# Altium footprint library MyLib.PcbLib: 105 footprints (part 5 of 7)
Each footprint in its own frame and in the unit in brackets; x right, y up, seen from the top. Pads: shape width x height; smd on the part's side, far side on the other; paste and mask are expansions set on the pad; w line width, h text height; cw(c..) or ccw(c..) is an arc to the next point about the centre after c.
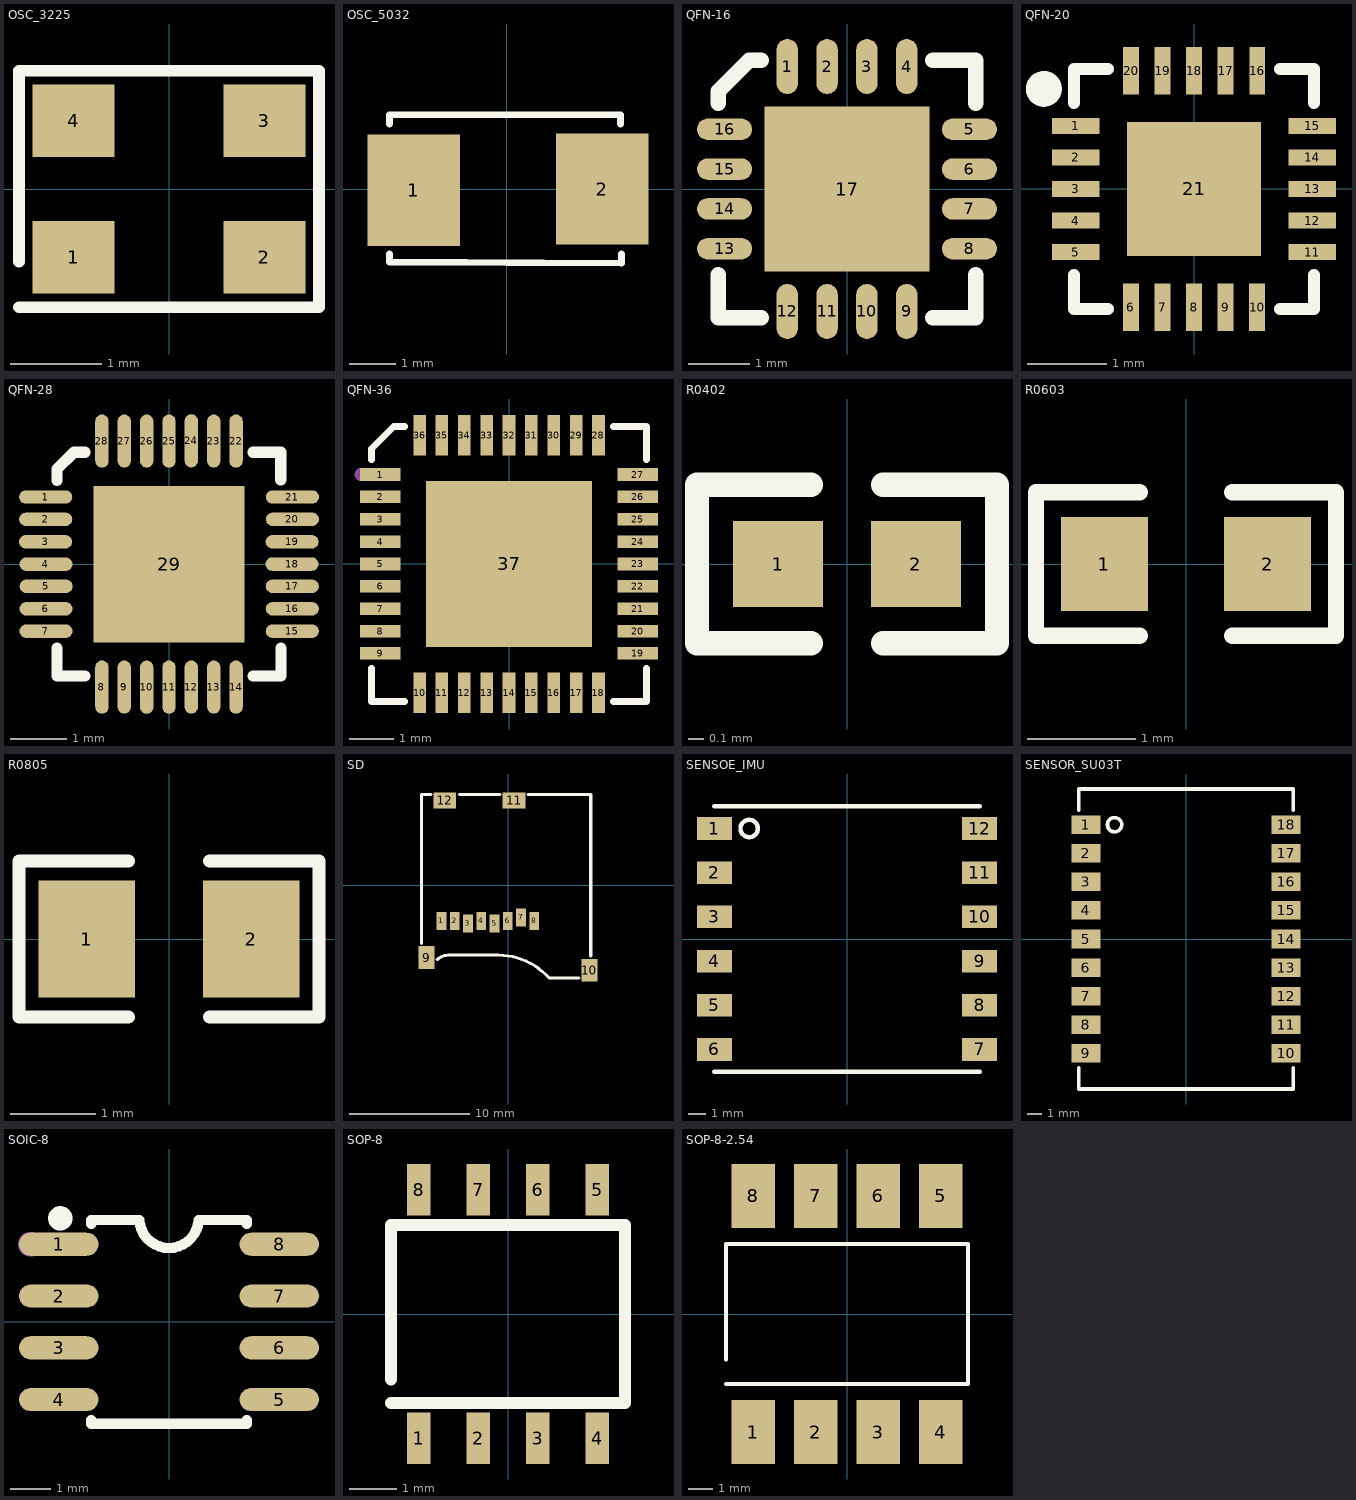
[diagram p4: the footprints below, top view; thin cyan lines are the x and y axes]

## OSC_3225 [mm]
pads (4):
  rect 0.9x0.8 smd mask+0.051: 1(-1.05,-0.75) 2(1.05,-0.75) 3(1.05,0.75) 4(-1.05,0.75)
Top Overlay:
  lines w0.127: -1.65,-1.3 1.65,-1.3 1.65,1.3 -1.65,1.3 -1.65,-0.8

## OSC_5032 [mm]
pads (2):
  rect 2x2.4 smd mask+0.102: 1(-2.006,-0.025) 2(2.058,0)
Top Overlay:
  lines w0.15: -2.525,-1.4 -2.525,-1.575 2.475,-1.6 2.475,-1.4 ; -2.525,1.4 -2.525,1.6 -1.925,1.6 2.449,1.6 2.449,1.4

## PCBComponent_1 [mm]

## QFN-16 [mm]
pads (17):
  oval 0.35x0.9 smd mask+0.051: 1(-0.975,2) 2(-0.325,2) 3(0.325,2) 4(0.975,2) 9(0.975,-2) 10(0.325,-2) 11(-0.325,-2) 12(-0.975,-2)
  oval 0.9x0.35 smd mask+0.051: 5(2,0.975) 6(2,0.325) 7(2,-0.325) 8(2,-0.975) 13(-2,-0.975) 14(-2,-0.325) 15(-2,0.325) 16(-2,0.975)
  rect 2.7x2.7 smd mask+0.051: 17(0,0)
Top Overlay:
  lines w0.254: -2.1,-1.4 -2.1,-2.1 -1.4,-2.1 ; -2.1,1.4 -2.1,1.6 -1.6,2.1 -1.4,2.1 ; 1.4,-2.1 2.1,-2.1 2.1,-1.4 ; 1.4,2.1 2.1,2.1 2.1,1.4

## QFN-20 [mm]
pads (21):
  rect 0.6x0.2 smd mask+0.051: 1(-1.5,0.8) 2(-1.5,0.4) 3(-1.5,0) 4(-1.5,-0.4) 5(-1.5,-0.8) 11(1.5,-0.8) 12(1.5,-0.4) 13(1.5,0) 14(1.5,0.4) 15(1.5,0.8)
  rect 0.2x0.6 smd mask+0.051: 6(-0.8,-1.5) 7(-0.4,-1.5) 8(0,-1.5) 9(0.4,-1.5) 10(0.8,-1.5) 16(0.8,1.5) 17(0.4,1.5) 18(0,1.5) 19(-0.4,1.5) 20(-0.8,1.5)
  rect 1.7x1.7 smd mask+0.051: 21(0,0)
Top Overlay:
  circle w0.254: c-1.905,1.27 r0.1
  lines w0.152: -1.524,-1.09 -1.524,-1.524 -1.09,-1.524 ; -1.524,1.143 -1.524,1.09 -1.524,1.524 -1.09,1.524 ; 1.09,-1.524 1.524,-1.524 1.524,-1.09 ; 1.09,1.524 1.524,1.524 1.524,1.09
Top Paste:
  region: 0.68,-0.68 -0.68,-0.68 -0.68,0.68 0.68,0.68
  region: -1.2,0.7 -1.2,0.9 -1.8,0.9 -1.8,0.7
  region: -1.2,0.3 -1.2,0.5 -1.8,0.5 -1.8,0.3
  region: -1.2,-0.1 -1.2,0.1 -1.8,0.1 -1.8,-0.1
  region: -1.2,-0.5 -1.2,-0.3 -1.8,-0.3 -1.8,-0.5
  region: -1.2,-0.9 -1.2,-0.7 -1.8,-0.7 -1.8,-0.9
  region: 1.8,0.7 1.8,0.9 1.2,0.9 1.2,0.7
  region: 1.8,0.3 1.8,0.5 1.2,0.5 1.2,0.3
  region: 1.8,-0.1 1.8,0.1 1.2,0.1 1.2,-0.1
  region: 1.8,-0.5 1.8,-0.3 1.2,-0.3 1.2,-0.5
  region: 1.8,-0.9 1.8,-0.7 1.2,-0.7 1.2,-0.9
  region: -0.7,1.8 -0.9,1.8 -0.9,1.2 -0.7,1.2
  region: -0.3,1.8 -0.5,1.8 -0.5,1.2 -0.3,1.2
  region: 0.1,1.8 -0.1,1.8 -0.1,1.2 0.1,1.2
  region: 0.5,1.8 0.3,1.8 0.3,1.2 0.5,1.2
  region: 0.9,1.8 0.7,1.8 0.7,1.2 0.9,1.2
  region: -0.7,-1.2 -0.9,-1.2 -0.9,-1.8 -0.7,-1.8
  region: -0.3,-1.2 -0.5,-1.2 -0.5,-1.8 -0.3,-1.8
  region: 0.1,-1.2 -0.1,-1.2 -0.1,-1.8 0.1,-1.8
  region: 0.5,-1.2 0.3,-1.2 0.3,-1.8 0.5,-1.8
  region: 0.9,-1.2 0.7,-1.2 0.7,-1.8 0.9,-1.8

## QFN-28 [mm]
pads (29):
  oval 0.95x0.24 smd: 1(-2.205,1.199) 2(-2.205,0.8) 3(-2.207,0.399) 4(-2.2,-0.003) 5(-2.197,-0.399) 6(-2.2,-0.8) 7(-2.2,-1.199) 15(2.205,-1.199) 16(2.205,-0.8) 17(2.205,-0.399) 18(2.2,0) 19(2.202,0.399) 20(2.207,0.8) 21(2.207,1.199)
  oval 0.24x0.95 smd: 8(-1.199,-2.2) 9(-0.8,-2.2) 10(-0.399,-2.202) 11(0,-2.2) 12(0.399,-2.2) 13(0.8,-2.2) 14(1.199,-2.2) 22(1.199,2.2) 23(0.8,2.2) 24(0.399,2.205) 25(0,2.2) 26(-0.399,2.2) 27(-0.8,2.2) 28(-1.199,2.2)
  rect 2.7x2.8 smd: 29(0,0)
Top Overlay:
  lines w0.2: -2,-1.5 -2,-2 -1.5,-2 ; -2,1.5 -2,1.7 -1.7,2 -1.5,2 ; 1.5,-2 2,-2 2,-1.5 ; 1.501,1.999 1.999,1.999 1.999,1.501

## QFN-36 [mm]
pads (37):
  rect 0.905x0.28 smd: 1(-2.877,2) 2(-2.877,1.5) 3(-2.877,1) 4(-2.877,0.5) 5(-2.877,0) 6(-2.877,-0.5) 7(-2.877,-1) 8(-2.877,-1.5) 9(-2.877,-2) 19(2.877,-2) 20(2.877,-1.5) 21(2.877,-1) 22(2.877,-0.5) 23(2.877,0) 24(2.877,0.5) 25(2.877,1) 26(2.877,1.5) 27(2.877,2)
  rect 0.28x0.905 smd: 10(-2,-2.877) 11(-1.5,-2.877) 12(-1,-2.877) 13(-0.5,-2.877) 14(0,-2.877) 15(0.5,-2.877) 16(1,-2.877) 17(1.5,-2.877) 18(2,-2.877) 28(2,2.877) 29(1.5,2.877) 30(1,2.877) 31(0.5,2.877) 32(0,2.877) 33(-0.5,2.877) 34(-1,2.877) 35(-1.5,2.877) 36(-2,2.877)
  rect 3.7x3.7 smd: 37(0,0)
Top Overlay:
  lines w0.152: -3.076,-2.331 -3.076,-3.076 -2.331,-3.076 ; -3.076,2.331 -3.076,2.576 -2.576,3.076 -2.331,3.076 ; 2.331,-3.076 3.076,-3.076 3.076,-2.331 ; 2.331,3.076 3.076,3.076 3.076,2.331
Top Paste:
  region: 1.48,1.48 1.48,-1.48 -1.48,-1.48 -1.48,1.48
  region: 2.14,3.33 1.86,3.33 1.86,2.425 2.14,2.425
  region: 1.64,3.33 1.36,3.33 1.36,2.425 1.64,2.425
  region: 1.14,3.33 0.86,3.33 0.86,2.425 1.14,2.425
  region: 0.64,3.33 0.36,3.33 0.36,2.425 0.64,2.425
  region: 0.14,3.33 -0.14,3.33 -0.14,2.425 0.14,2.425
  region: -0.36,3.33 -0.64,3.33 -0.64,2.425 -0.36,2.425
  region: -0.86,3.33 -1.14,3.33 -1.14,2.425 -0.86,2.425
  region: -1.36,3.33 -1.64,3.33 -1.64,2.425 -1.36,2.425
  region: -1.86,3.33 -2.14,3.33 -2.14,2.425 -1.86,2.425
  region: -1.86,-2.425 -2.14,-2.425 -2.14,-3.33 -1.86,-3.33
  region: -1.36,-2.425 -1.64,-2.425 -1.64,-3.33 -1.36,-3.33
  region: -0.86,-2.425 -1.14,-2.425 -1.14,-3.33 -0.86,-3.33
  region: -0.36,-2.425 -0.64,-2.425 -0.64,-3.33 -0.36,-3.33
  region: 0.14,-2.425 -0.14,-2.425 -0.14,-3.33 0.14,-3.33
  region: 0.64,-2.425 0.36,-2.425 0.36,-3.33 0.64,-3.33
  region: 1.14,-2.425 0.86,-2.425 0.86,-3.33 1.14,-3.33
  region: 1.64,-2.425 1.36,-2.425 1.36,-3.33 1.64,-3.33
  region: 2.14,-2.425 1.86,-2.425 1.86,-3.33 2.14,-3.33
  region: -3.33,-1.86 -3.33,-2.14 -2.425,-2.14 -2.425,-1.86
  region: -3.33,-1.36 -3.33,-1.64 -2.425,-1.64 -2.425,-1.36
  region: -3.33,-0.86 -3.33,-1.14 -2.425,-1.14 -2.425,-0.86
  region: -3.33,-0.36 -3.33,-0.64 -2.425,-0.64 -2.425,-0.36
  region: -3.33,0.14 -3.33,-0.14 -2.425,-0.14 -2.425,0.14
  region: -3.33,0.64 -3.33,0.36 -2.425,0.36 -2.425,0.64
  region: -3.33,1.14 -3.33,0.86 -2.425,0.86 -2.425,1.14
  region: -3.33,1.64 -3.33,1.36 -2.425,1.36 -2.425,1.64
  region: -3.33,2.14 -3.33,1.86 -2.425,1.86 -2.425,2.14
  region: 2.425,-1.86 2.425,-2.14 3.33,-2.14 3.33,-1.86
  region: 2.425,-1.36 2.425,-1.64 3.33,-1.64 3.33,-1.36
  region: 2.425,-0.86 2.425,-1.14 3.33,-1.14 3.33,-0.86
  region: 2.425,-0.36 2.425,-0.64 3.33,-0.64 3.33,-0.36
  region: 2.425,0.14 2.425,-0.14 3.33,-0.14 3.33,0.14
  region: 2.425,0.64 2.425,0.36 3.33,0.36 3.33,0.64
  region: 2.425,1.14 2.425,0.86 3.33,0.86 3.33,1.14
  region: 2.425,1.64 2.425,1.36 3.33,1.36 3.33,1.64
  region: 2.425,2.14 2.425,1.86 3.33,1.86 3.33,2.14
Mechanical 15:
  circle w0.15: c-3.3,2 r0.075

## R0402 [mm]
pads (2):
  rect 0.566x0.54 smd mask+0.051: 1(-0.433,0) 2(0.433,0)
Top Overlay:
  lines w0.152: -0.226,-0.499 -0.944,-0.499 -0.944,0.499 -0.226,0.499 ; 0.226,-0.499 0.944,-0.499 0.944,0.499 0.226,0.499

## R0603 [mm]
pads (2):
  rect 0.806x0.864 smd mask+0.051: 1(-0.753,0) 2(0.753,0)
Top Overlay:
  lines w0.152: -0.426,-0.661 -1.385,-0.661 -1.385,0.661 -0.426,0.661 ; 0.426,-0.661 1.385,-0.661 1.385,0.661 0.426,0.661

## R0805 [mm]
pads (2):
  rect 1.133x1.377 smd mask+0.051: 1(-0.966,0) 2(0.966,0)
Top Overlay:
  lines w0.152: -0.476,-0.917 -1.761,-0.917 -1.761,0.917 -0.476,0.917 ; 0.476,-0.917 1.761,-0.917 1.761,0.917 0.476,0.917

## SD [mm]
pads (12):
  rect 0.8x1.5 smd: 1(-5.52,-2.958) 2(-4.42,-2.958) 3(-3.32,-3.158) 4(-2.22,-2.958) 5(-1.12,-3.158) 6(-0.02,-2.958) 7(1.08,-2.658) 8(2.18,-2.958)
  rect 1.3x1.9 smd: 9(-6.76,-5.997) 10(6.76,-7.046)
  rect 1.9x1.3 smd: 11(0.5,7.046) 12(-5.25,7.046)
Top Overlay:
  lines w0.254: -7.18,-4.815 -7.18,7.553 -6.381,7.553 ; -5.878,-6.169 cw(c-4.978,-7.069) -4.978,-5.797 -0.778,-5.797 cw(c-0.778,-11.349) 3.148,-7.423 3.422,-7.697 5.564,-7.697 5.879,-7.697 ; -4.019,7.553 -1.139,7.553 -0.681,7.553 ; 1.681,7.553 6.87,7.553 6.87,-5.865

## SENSOE_IMU [mm]
pads (12):
  rect 2x1.3 smd: 1(-7.62,6.35) 2(-7.62,3.81) 3(-7.62,1.27) 4(-7.62,-1.27) 5(-7.62,-3.81) 6(-7.62,-6.35) 7(7.62,-6.35) 8(7.62,-3.81) 9(7.62,-1.27) 10(7.62,1.27) 11(7.62,3.81) 12(7.62,6.35)
Top Overlay:
  circle w0.254: c-5.62,6.35 r0.5
  lines w0.254: -7.62,-7.62 7.62,-7.62 ; -7.62,7.62 7.62,7.62

## SENSOR_SU03T [mm]
pads (18):
  rect 2x1.3 smd: 1(-7,8) 2(-7,6) 3(-7,4) 4(-7,2) 5(-7,0) 6(-7,-2) 7(-7,-4) 8(-7,-6) 9(-7,-8) 10(7,-8) 11(7,-6) 12(7,-4) 13(7,-2) 14(7,0) 15(7,2) 16(7,4) 17(7,6) 18(7,8)
Top Overlay:
  circle w0.254: c-5,8 r0.5
  lines w0.254: -7.5,-9 -7.5,-10.5 7.5,-10.5 7.5,-9 ; -7.5,9 -7.5,10.5 7.5,10.5 7.5,9

## SOIC-8 [mil]
pads (8):
  oval 76.78x22.38 smd: 1(-106.5,75) 2(-106.5,25) 3(-106.5,-25) 4(-106.5,-75) 5(106.5,-75) 6(106.5,-25) 7(106.5,25) 8(106.5,75)
Top Overlay:
  circle w11.81: c-105,100 r5.91
  lines w10: -75,-94.83 -75,-98.42 -59.05,-98.42 59.05,-98.42 75,-98.42 75,-94.83 ; -75,94.83 -75,98.42 -59.05,98.42 -28.61,98.42 ; -28.61,98.43 ccw(c0,99.99) 28.59,98.23 ; 28.59,98.42 59.05,98.42 75,98.42 75,94.83
Mechanical 6:
  circle w11.81: c-133.86,75 r5.91

## SOP-8 [mm]
pads (8):
  rect 0.5x1.1 smd mask+0.051: 1(-1.905,-2.65) 2(-0.635,-2.65) 3(0.635,-2.65) 4(1.905,-2.65) 5(1.905,2.65) 6(0.635,2.65) 7(-0.635,2.65) 8(-1.905,2.65)
Top Overlay:
  lines w0.254: -2.5,-1.9 2.5,-1.9 2.5,1.9 -2.5,1.9 -2.5,-1.4

## SOP-8-2.54 [mm]
pads (8):
  rect 1.78x2.6 smd mask+0.102: 1(-3.81,-4.8) 2(-1.27,-4.8) 3(1.27,-4.8) 4(3.81,-4.8) 5(3.81,4.8) 6(1.27,4.8) 7(-1.27,4.8) 8(-3.81,4.8)
Top Overlay:
  lines w0.152: -4.916,-2.851 4.916,-2.851 4.916,2.851 -4.916,2.851 -4.916,-1.851